# EAGLE library part CONN-7P (library pinconn)
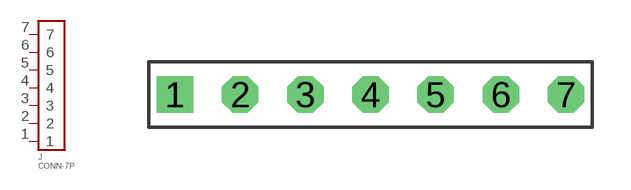
[diagram p5: symbol with the pads of CONN-7P; footprint CONN-7P]

Designator prefix J

## CONN-7P  [CONN-7P]
1  1  pas
2  2  pas
3  3  pas
4  4  pas
5  5  pas
6  6  pas
7  7  pas

## Footprint CONN-7P (pad centres in mm)
drill 0.9 pad 1.422 square: 1 -7.62,0
drill 0.9 pad 1.422 octagon: 2 -5.08,0; 3 -2.54,0; 4 0,0; 5 2.54,0; 6 5.08,0; 7 7.62,0